# Altium schematic symbol library Schlib_Allwinner.SchLib: 1 symbol
Pins are listed as number, name and electrical type; pins without a type are passive.

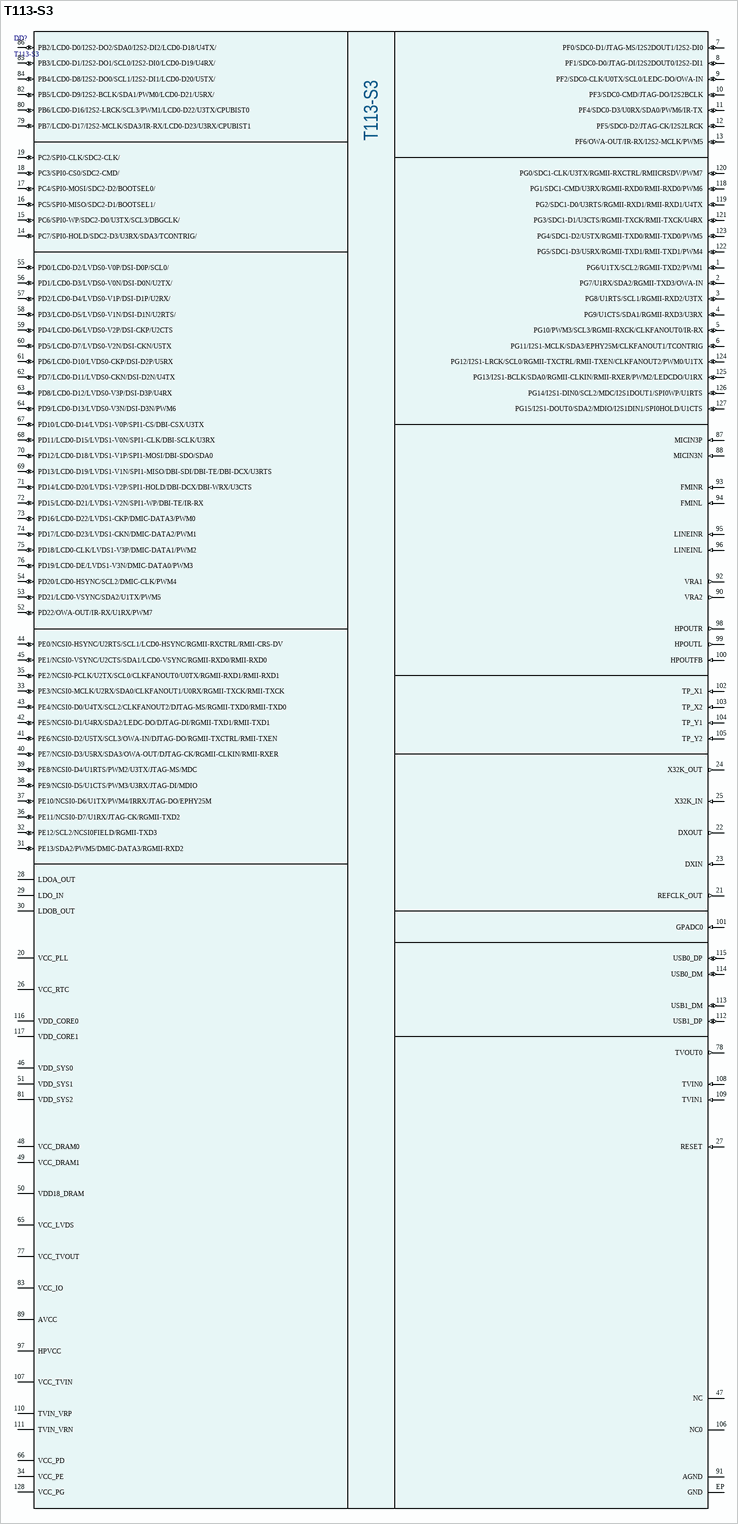
[diagram p0: symbol T113-S3]

## T113-S3
designator DD?
Smart Control and Display SoC for Automotive and Industrial Products; Manufacturer: Allwinner; Part Number: T113-S3; Package: eQFP128
footprint eLQFP-128 (TSQFP, 128-Leads, Body 14.00x14.00mm, Pitch 0.40mm, IPC Medium Density)
pins: 1 PG6/U1TX/SCL2/RGMII-TXD2/PWM1 (io), 2 PG7/U1RX/SDA2/RGMII-TXD3/OWA-IN (io), 3 PG8/U1RTS/SCL1/RGMII-RXD2/U3TX (io), 4 PG9/U1CTS/SDA1/RGMII-RXD3/U3RX (io), 5 PG10/PWM3/SCL3/RGMII-RXCK/CLKFANOUT0/IR-RX (io), 6 PG11/I2S1-MCLK/SDA3/EPHY25M/CLKFANOUT1/TCONTRIG (io), 7 PF0/SDC0-D1/JTAG-MS/I2S2DOUT1/I2S2-DI0 (io), 8 PF1/SDC0-D0/JTAG-DI/I2S2DOUT0/I2S2-DI1 (io), 9 PF2/SDC0-CLK/U0TX/SCL0/LEDC-DO/OWA-IN (io), 10 PF3/SDC0-CMD/JTAG-DO/I2S2BCLK (io), 11 PF4/SDC0-D3/U0RX/SDA0/PWM6/IR-TX (io), 12 PF5/SDC0-D2/JTAG-CK/I2S2LRCK (io), 13 PF6/OWA-OUT/IR-RX/I2S2-MCLK/PWM5 (io), 14 PC7/SPI0-HOLD/SDC2-D3/U3RX/SDA3/TCONTRIG/ (io), 15 PC6/SPI0-WP/SDC2-D0/U3TX/SCL3/DBGCLK/ (io), 16 PC5/SPI0-MISO/SDC2-D1/BOOTSEL1/ (io), 17 PC4/SPI0-MOSI/SDC2-D2/BOOTSEL0/ (io), 18 PC3/SPI0-CS0/SDC2-CMD/ (io), 19 PC2/SPI0-CLK/SDC2-CLK/ (io), 20 VCC_PLL (power), 21 REFCLK_OUT (out), 22 DXOUT (out), 23 DXIN (in), 24 X32K_OUT (out), 25 X32K_IN (in), 26 VCC_RTC (power), 27 RESET (in), 28 LDOA_OUT (power), 29 LDO_IN (power), 30 LDOB_OUT (power), 31 PE13/SDA2/PWM5/DMIC-DATA3/RGMII-RXD2 (io), 32 PE12/SCL2/NCSI0FIELD/RGMII-TXD3 (io), 33 PE3/NCSI0-MCLK/U2RX/SDA0/CLKFANOUT1/U0RX/RGMII-TXCK/RMII-TXCK (io), 34 VCC_PE (power), 35 PE2/NCSI0-PCLK/U2TX/SCL0/CLKFANOUT0/U0TX/RGMII-RXD1/RMII-RXD1 (io), 36 PE11/NCSI0-D7/U1RX/JTAG-CK/RGMII-TXD2 (io), 37 PE10/NCSI0-D6/U1TX/PWM4/IRRX/JTAG-DO/EPHY25M (io), 38 PE9/NCSI0-D5/U1CTS/PWM3/U3RX/JTAG-DI/MDIO (io), 39 PE8/NCSI0-D4/U1RTS/PWM2/U3TX/JTAG-MS/MDC (io), 40 PE7/NCSI0-D3/U5RX/SDA3/OWA-OUT/DJTAG-CK/RGMII-CLKIN/RMII-RXER (io), 41 PE6/NCSI0-D2/U5TX/SCL3/OWA-IN/DJTAG-DO/RGMII-TXCTRL/RMII-TXEN (io), 42 PE5/NCSI0-D1/U4RX/SDA2/LEDC-DO/DJTAG-DI/RGMII-TXD1/RMII-TXD1 (io), 43 PE4/NCSI0-D0/U4TX/SCL2/CLKFANOUT2/DJTAG-MS/RGMII-TXD0/RMII-TXD0 (io), 44 PE0/NCSI0-HSYNC/U2RTS/SCL1/LCD0-HSYNC/RGMII-RXCTRL/RMII-CRS-DV (io), 45 PE1/NCSI0-VSYNC/U2CTS/SDA1/LCD0-VSYNC/RGMII-RXD0/RMII-RXD0 (io), 46 VDD_SYS0 (power), 47 NC (hiz), 48 VCC_DRAM0 (power), 49 VCC_DRAM1 (power), 50 VDD18_DRAM (power), 51 VDD_SYS1 (power), 52 PD22/OWA-OUT/IR-RX/U1RX/PWM7 (io), 53 PD21/LCD0-VSYNC/SDA2/U1TX/PWM5 (io), 54 PD20/LCD0-HSYNC/SCL2/DMIC-CLK/PWM4 (io), 55 PD0/LCD0-D2/LVDS0-V0P/DSI-D0P/SCL0/ (io), 56 PD1/LCD0-D3/LVDS0-V0N/DSI-D0N/U2TX/ (io), 57 PD2/LCD0-D4/LVDS0-V1P/DSI-D1P/U2RX/ (io), 58 PD3/LCD0-D5/LVDS0-V1N/DSI-D1N/U2RTS/ (io), 59 PD4/LCD0-D6/LVDS0-V2P/DSI-CKP/U2CTS (io), 60 PD5/LCD0-D7/LVDS0-V2N/DSI-CKN/U5TX (io), 61 PD6/LCD0-D10/LVDS0-CKP/DSI-D2P/U5RX (io), 62 PD7/LCD0-D11/LVDS0-CKN/DSI-D2N/U4TX (io), 63 PD8/LCD0-D12/LVDS0-V3P/DSI-D3P/U4RX (io), 64 PD9/LCD0-D13/LVDS0-V3N/DSI-D3N/PWM6 (io), 65 VCC_LVDS (power), 66 VCC_PD (power), 67 PD10/LCD0-D14/LVDS1-V0P/SPI1-CS/DBI-CSX/U3TX (io), 68 PD11/LCD0-D15/LVDS1-V0N/SPI1-CLK/DBI-SCLK/U3RX (io), 69 PD13/LCD0-D19/LVDS1-V1N/SPI1-MISO/DBI-SDI/DBI-TE/DBI-DCX/U3RTS (io), 70 PD12/LCD0-D18/LVDS1-V1P/SPI1-MOSI/DBI-SDO/SDA0 (io), 71 PD14/LCD0-D20/LVDS1-V2P/SPI1-HOLD/DBI-DCX/DBI-WRX/U3CTS (io), 72 PD15/LCD0-D21/LVDS1-V2N/SPI1-WP/DBI-TE/IR-RX (io), 73 PD16/LCD0-D22/LVDS1-CKP/DMIC-DATA3/PWM0 (io), 74 PD17/LCD0-D23/LVDS1-CKN/DMIC-DATA2/PWM1 (io), 75 PD18/LCD0-CLK/LVDS1-V3P/DMIC-DATA1/PWM2 (io), 76 PD19/LCD0-DE/LVDS1-V3N/DMIC-DATA0/PWM3 (io), 77 VCC_TVOUT (power), 78 TVOUT0 (out), 79 PB7/LCD0-D17/I2S2-MCLK/SDA3/IR-RX/LCD0-D23/U3RX/CPUBIST1 (io), 80 PB6/LCD0-D16/I2S2-LRCK/SCL3/PWM1/LCD0-D22/U3TX/CPUBIST0 (io), 81 VDD_SYS2 (power), 82 PB5/LCD0-D9/I2S2-BCLK/SDA1/PWM0/LCD0-D21/U5RX/ (io), 83 VCC_IO (power), 84 PB4/LCD0-D8/I2S2-DO0/SCL1/I2S2-DI1/LCD0-D20/U5TX/ (io), 85 PB3/LCD0-D1/I2S2-DO1/SCL0/I2S2-DI0/LCD0-D19/U4RX/ (io), 86 PB2/LCD0-D0/I2S2-DO2/SDA0/I2S2-DI2/LCD0-D18/U4TX/ (io), 87 MICIN3P (in), 88 MICIN3N (in), 89 AVCC (power), 90 VRA2 (out), 91 AGND (power), 92 VRA1 (out), 93 FMINR (in), 94 FMINL (in), 95 LINEINR (in), 96 LINEINL (in), 97 HPVCC (power), 98 HPOUTR (out), 99 HPOUTL (out), 100 HPOUTFB (in), 101 GPADC0 (in), 102 TP_X1 (in), 103 TP_X2 (in), 104 TP_Y1 (in), 105 TP_Y2 (in), 106 NC0 (hiz), 107 VCC_TVIN (power), 108 TVIN0 (in), 109 TVIN1 (in), 110 TVIN_VRP (power), 111 TVIN_VRN (power), 112 USB1_DP (io), 113 USB1_DM (io), 114 USB0_DM (io), 115 USB0_DP (io), 116 VDD_CORE0 (power), 117 VDD_CORE1 (power), 118 PG1/SDC1-CMD/U3RX/RGMII-RXD0/RMII-RXD0/PWM6 (io), 119 PG2/SDC1-D0/U3RTS/RGMII-RXD1/RMII-RXD1/U4TX (io), 120 PG0/SDC1-CLK/U3TX/RGMII-RXCTRL/RMIICRSDV/PWM7 (io), 121 PG3/SDC1-D1/U3CTS/RGMII-TXCK/RMII-TXCK/U4RX (io), 122 PG5/SDC1-D3/U5RX/RGMII-TXD1/RMII-TXD1/PWM4 (io), 123 PG4/SDC1-D2/U5TX/RGMII-TXD0/RMII-TXD0/PWM5 (io), 124 PG12/I2S1-LRCK/SCL0/RGMII-TXCTRL/RMII-TXEN/CLKFANOUT2/PWM0/U1TX (io), 125 PG13/I2S1-BCLK/SDA0/RGMII-CLKIN/RMII-RXER/PWM2/LEDCDO/U1RX (io), 126 PG14/I2S1-DIN0/SCL2/MDC/I2S1DOUT1/SPI0WP/U1RTS (io), 127 PG15/I2S1-DOUT0/SDA2/MDIO/I2S1DIN1/SPI0HOLD/U1CTS (io), 128 VCC_PG (power), EP GND (power)